# Altium footprint library CONNECTOR_DISP.PcbLib: 1 footprints
Each footprint in its own frame and in the unit in brackets; x right, y up, seen from the top. Pads: shape width x height; smd on the part's side, far side on the other; paste and mask are expansions set on the pad; w line width, h text height; cw(c..) or ccw(c..) is an arc to the next point about the centre after c.
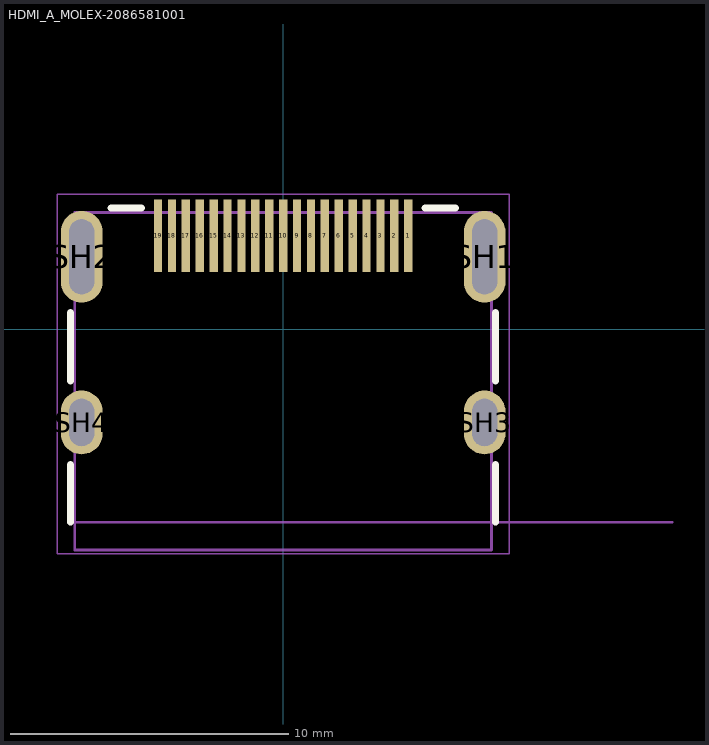
[diagram p0: the footprint, top view; thin cyan lines are the x and y axes]

## HDMI_A_MOLEX-2086581001 [mm]
height 6.19
pads (23):
  rect 0.298x2.6 smd mask+0.064: 1(4.5,3.36) 2(4,3.36) 3(3.5,3.36) 4(3,3.36) 5(2.5,3.36) 6(2,3.36) 7(1.5,3.36) 8(1,3.36) 9(0.5,3.36) 10(0,3.36) 11(-0.5,3.36) 12(-1,3.36) 13(-1.5,3.36) 14(-2,3.36) 15(-2.5,3.36) 16(-3,3.36) 17(-3.5,3.36) 18(-4,3.36) 19(-4.5,3.36)
  oval 1.5x3.3 hole 0.9 slot 2.7 at 90 deg mask+0.064: SH1(7.25,2.6) SH2(-7.25,2.6)
  oval 1.5x2.3 hole 0.9 slot 1.7 at 90 deg mask+0.064: SH3(7.25,-3.36) SH4(-7.25,-3.36)
Top Overlay:
  lines w0.25: -7.65,-6.95 -7.65,-4.875 ; -7.65,-1.86 -7.65,0.6 ; -6.2,4.35 -5.1,4.35 ; 5.1,4.35 6.2,4.35 ; 7.65,-6.95 7.65,-4.875 ; 7.65,-1.86 7.65,0.6
Mechanical 13:
  lines w0.1: 14,-6.95 -7.5,-6.95 ; -7.5,-6.95 -7.5,4.2 7.5,4.2 7.5,-7.95 -7.5,-7.95 -7.5,-6.95
  text "PCB EDGE" at 7.747,-6.696 h0.8
Mechanical 15:
  lines w0.05: -8.128,-8.093 -8.128,4.861 8.128,4.861 8.128,-8.093 -8.128,-8.093
3D body "2086581001.stp": height 6.21, standoff -2.18, extent -7.5,-7.95 7.5,4.2